# Altium schematic symbol library leds.SchLib: 6 symbols
Pins are listed as number, name and electrical type; pins without a type are passive.

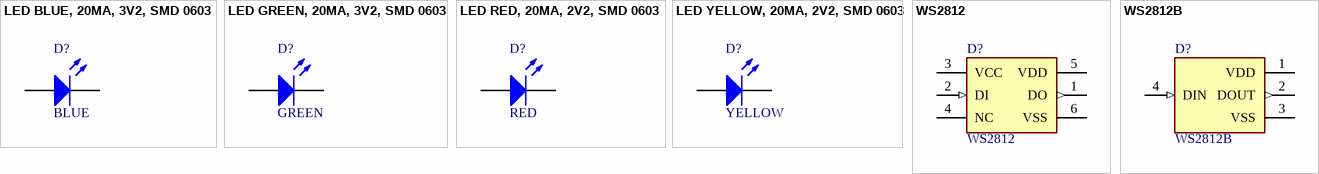
[diagram p0: symbols LED BLUE, 20MA, 3V2, SMD 0603 to WS2812B]

## LED BLUE, 20MA, 3V2, SMD 0603
designator D?, comment BLUE
Typical LED
footprint LED 0603/1608 BLUE (Chip Diode, 2-Leads, Body 1.60x0.80mm, IPC Medium Density)
pins: 1 A, 2 K

## LED GREEN, 20MA, 3V2, SMD 0603
designator D?, comment GREEN
Typical LED
footprint LED 0603/1608 GREEN (Chip Diode, 2-Leads, Body 1.60x0.80mm, IPC Medium Density)
pins: 1 A, 2 K

## LED RED, 20MA, 2V2, SMD 0603
designator D?, comment RED
Typical LED
footprint LED 0603/1608 RED (Chip Diode, 2-Leads, Body 1.60x0.80mm, IPC Medium Density)
pins: 1 A, 2 K

## LED YELLOW, 20MA, 2V2, SMD 0603
designator D?, comment YELLOW
Typical LED
footprint LED 0603/1608 YELLOW (Chip Diode, 2-Leads, Body 1.60x0.80mm, IPC Medium Density)
pins: 1 A, 2 K

## WS2812
designator D?
Intelligent control LED  integrated light source; Vendor: Worldsemi; Value: WS2812
footprint WS2812
pins: 1 DO (out), 2 DI (in), 3 VCC (power), 4 NC, 5 VDD (power), 6 VSS (power)

## WS2812B
designator D?
Intelligent control LED  integrated light source; Vendor: Worldsemi; Value: WS2812B
footprint WS2812B
pins: 1 VDD (power), 2 DOUT (out), 3 VSS, 4 DIN (in)